# EAGLE library part ISP_PROGRAM (library pov_class_finished)
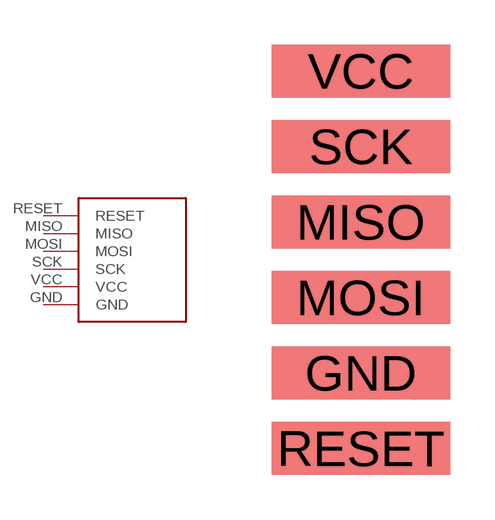
[diagram p0: symbol with the pads of POV_ISP_CONNECTOR; footprint POV_ISP_CONNECTOR]

Designator prefix -

## ISP_PROGRAM  [POV_ISP_CONNECTOR]
GND  GND
MISO  MISO
MOSI  MOSI
RESET  RESET
SCK  SCK
VCC  VCC

## Footprint POV_ISP_CONNECTOR (pad centres in mm)
smd 6 x 1.778: GND 0,-2.54; MISO 0,2.54; MOSI 0,0; RESET 0,-5.08; SCK 0,5.08; VCC 0,7.62